# Altium footprint library SM.PcbLib: 4 footprints
Each footprint in its own frame and in the unit in brackets; x right, y up, seen from the top. Pads: shape width x height; smd on the part's side, far side on the other; paste and mask are expansions set on the pad; w line width, h text height; cw(c..) or ccw(c..) is an arc to the next point about the centre after c.
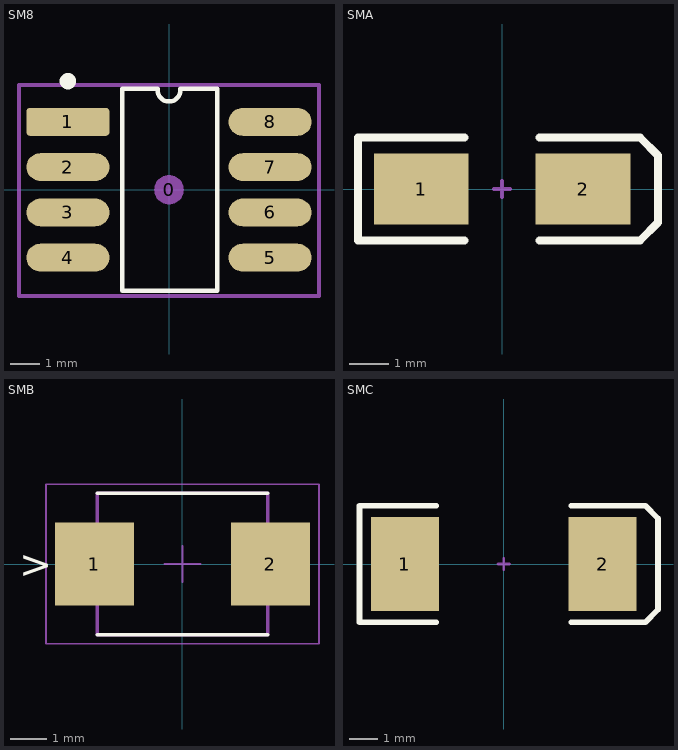
[diagram p0: the footprints below, top view; thin cyan lines are the x and y axes]

## SM8 [mil]
pads (9):
  round 39.37 on Mech15: 0(0,0)
  rrect25% 110x37 smd: 1(-134,90)
  oval 110x37 smd: 2(-134,30) 3(-134,-30) 4(-134,-90) 5(134,-90) 6(134,-30) 7(134,30) 8(134,90)
Top Overlay:
  circle w19.68: c-134,144 r1
  lines w6: -15,132 ccw(c0,132) 15,132 ; -15,134 -29,134 -62,134 -62,-134 64,-134 64,134 15,134
Mechanical 15:
  lines w5: -198.82,-141 198.82,-141 198.82,139 -198.82,139 -198.82,-141
3D body "SM8.stp": height 66.93, standoff 0.09, extent -142.75,-129.92 142.76,129.92

## SMA [mm] "DO-214-AC/SMA; 2 C-Bend Leads; Body 5 x 2.7 mm, inc. leads (LxW)"
height 2.44
pads (2):
  rect 2.4x1.8 smd: 1(-2.05,0) 2(2.05,0)
Top Overlay:
  lines w0.2: -0.95,-1.3 -3.65,-1.3 -3.65,1.3 -0.95,1.3 ; 0.95,-1.3 3.5,-1.3 3.95,-0.85 3.95,0.85 3.5,1.3 0.95,1.3
Mechanical 1:
  lines w0.1: -0.2,0 0.2,0 ; 0,-0.2 0,0.2
3D body "User Library-DIOM5528X26.step": height 2.6, standoff 0.03, extent -2.75,-1.4 2.75,1.4

## SMB [mm] "DO-214-AA/SMB; 2 C-Bend Leads; Body 5.3 x 3.6 mm, inc. leads (LxW)"
height 2.54
pads (2):
  rect 2.2x2.3 smd: 1(-2.45,0) 2(2.45,0)
Top Overlay:
  lines w0.1: -2.375,-1.97 2.375,-1.97 ; -2.375,1.97 2.375,1.97
  text ">" at -4.55,-0.4 h0.8
Mechanical 13:
  lines w0.1: -2.375,-1.97 2.375,-1.97 2.375,1.97 -2.375,1.97 -2.375,-1.97
Mechanical 15:
  lines w0.05: -2.375,2.22 2.375,2.22 ; -0.5,0 0.5,0 ; 0,-0.5 0,0.5 ; -3.795,-2.22 -3.795,2.22 3.8,2.22 3.8,-2.22 -3.795,-2.22
3D body "SMBJ12A.step": height 2.46, standoff 0, extent -2.718,-1.778 2.718,1.778

## SMC [mm] "DO-214-AB/SMC; 2 C-Bend Leads; Body 7.9 x 5.9 mm, inc. leads (LxW)"
height 2.57
pads (2):
  rect 2.4x3.3 smd: 1(-3.475,0) 2(3.475,0)
Top Overlay:
  lines w0.2: -2.375,-2.05 -5.075,-2.05 -5.075,2.05 -2.375,2.05 ; 2.375,-2.05 4.975,-2.05 5.425,-1.6 5.425,1.6 4.975,2.055 ; 2.375,2.05 4.975,2.05
Mechanical 1:
  lines w0.1: -0.2,0 0.2,0 ; 0,-0.2 0,0.2